# EAGLE library part 23K256 (library m_ic-other)
256K SPI Bus Low-Power Serial SRAM Features: Max. Clock 20 MHz Low-Power CMOS Technology Read Current: 3mA at 1MHz Standby Current:4?A Max. at +85°C 32,768 x 8-bit Organization 32-Byte Page HOLD pin Flexible Operating modes Byte read and write Page mode (32 Byte Page) Sequential mode
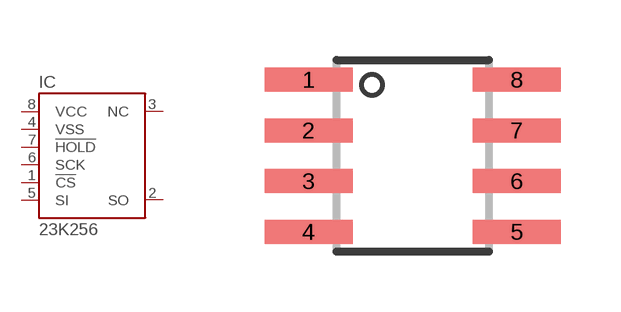
[diagram p2: symbol with the pads of SO08; footprint SO08]

Designator prefix IC

## 23K256-_SN (MANUF: Microchip; PARTNUM: 23_256_-____)  [SO08]
1  !CS
2  SO
3  NC
4  VSS
5  SI
6  SCK
7  !HOLD
8  VCC

## Footprint SO08 (pad centres in mm)
Small Outline Package 8 NS Package M08A
smd 2.2 x 0.6: 1 -2.604,1.905; 2 -2.604,0.635; 3 -2.604,-0.635; 4 -2.604,-1.905; 5 2.604,-1.905; 6 2.604,-0.635; 7 2.604,0.635; 8 2.604,1.905